# EAGLE library part FEMALE_HEADER_8X1 (library xmas_tree)
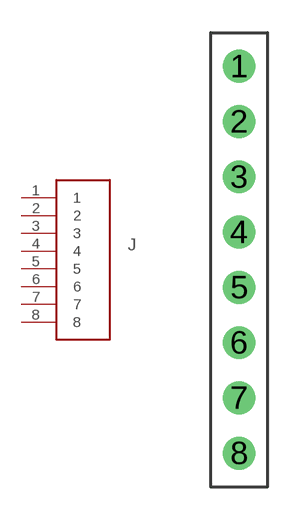
[diagram p0: symbol with the pads of 8X1_HEADER_THT; footprint 8X1_HEADER_THT]

Designator prefix J

## FEMALE_HEADER_8X1  [8X1_HEADER_THT]
1  1
2  2
3  3
4  4
5  5
6  6
7  7
8  8

## Footprint 8X1_HEADER_THT (pad centres in mm)
drill 1: 1 0,8.89; 2 0,6.35; 3 0,3.81; 4 0,1.27; 5 0,-1.27; 6 0,-3.81; 7 0,-6.35; 8 0,-8.89